# Altium footprint library PCB1.PcbLib: 11 footprints
Each footprint in its own frame and in the unit in brackets; x right, y up, seen from the top. Pads: shape width x height; smd on the part's side, far side on the other; paste and mask are expansions set on the pad; w line width, h text height; cw(c..) or ccw(c..) is an arc to the next point about the centre after c.
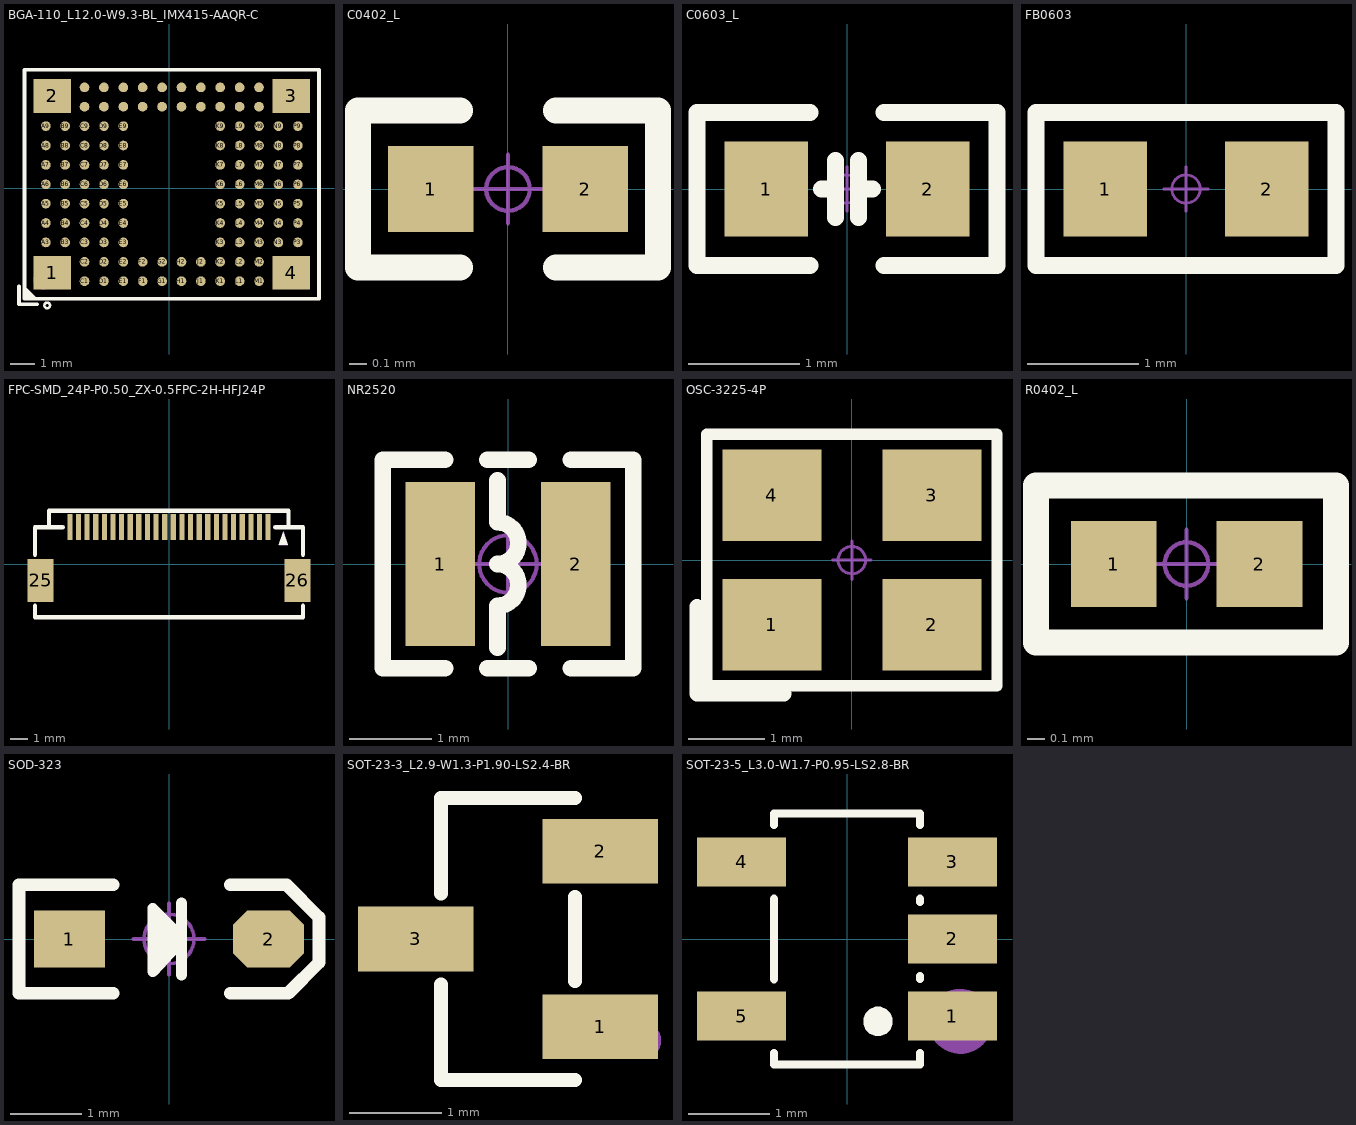
[diagram p0: the footprints below, top view; thin cyan lines are the x and y axes]

## BGA-110_L12.0-W9.3-BL_IMX415-AAQR-C [mm]
pads (114):
  rect 1.55x1.4 smd paste-100 mask-0.05: 1(-4.811,-3.493) 2(-4.811,3.807) 3(5.039,3.807) 4(5.039,-3.493)
  round 0.4 smd paste-100 mask+0.051: A3(-5.086,-2.243) A4(-5.086,-1.443) A5(-5.086,-0.643) A6(-5.086,0.157) A7(-5.086,0.957) A8(-5.086,1.757) A9(-5.086,2.557) B3(-4.286,-2.243) B4(-4.286,-1.443) B5(-4.286,-0.643) B6(-4.286,0.157) B7(-4.286,0.957) B8(-4.286,1.757) B9(-4.286,2.557) C1(-3.486,-3.843) C2(-3.486,-3.043) C3(-3.486,-2.243) C4(-3.486,-1.443) C5(-3.486,-0.643) C6(-3.486,0.157) C7(-3.486,0.957) C8(-3.486,1.757) C9(-3.486,2.557) C10(-3.486,3.357) C11(-3.486,4.157) D1(-2.686,-3.843) D2(-2.686,-3.043) D3(-2.686,-2.243) D4(-2.686,-1.443) D5(-2.686,-0.643) D6(-2.686,0.157) D7(-2.686,0.957) D8(-2.686,1.757) D9(-2.686,2.557) D10(-2.686,3.357) D11(-2.686,4.157) E1(-1.886,-3.843) E2(-1.886,-3.043) E3(-1.886,-2.243) E4(-1.886,-1.443) E5(-1.886,-0.643) E6(-1.886,0.157) E7(-1.886,0.957) E8(-1.886,1.757) E9(-1.886,2.557) E10(-1.886,3.357) E11(-1.886,4.157) F1(-1.086,-3.843) F2(-1.086,-3.043) F10(-1.086,3.357) F11(-1.086,4.157) G1(-0.286,-3.843) G2(-0.286,-3.043) G10(-0.286,3.357) G11(-0.286,4.157) H1(0.514,-3.843) H2(0.514,-3.043) H10(0.514,3.357) H11(0.514,4.157) J1(1.314,-3.843) J2(1.314,-3.043) J10(1.314,3.357) J11(1.314,4.157) K1(2.114,-3.843) K2(2.114,-3.043) K3(2.114,-2.243) K4(2.114,-1.443) K5(2.114,-0.643) K6(2.114,0.157) K7(2.114,0.957) K8(2.114,1.757) K9(2.114,2.557) K10(2.114,3.357) K11(2.114,4.157) L1(2.914,-3.843) L2(2.914,-3.043) L3(2.914,-2.243) L4(2.914,-1.443) L5(2.914,-0.643) L6(2.914,0.157) L7(2.914,0.957) L8(2.914,1.757) L9(2.914,2.557) L10(2.914,3.357) L11(2.914,4.157) M1(3.714,-3.843) M2(3.714,-3.043) M3(3.714,-2.243) M4(3.714,-1.443) M5(3.714,-0.643) M6(3.714,0.157) M7(3.714,0.957) M8(3.714,1.757) M9(3.714,2.557) M10(3.714,3.357) M11(3.714,4.157) N3(4.514,-2.243) N4(4.514,-1.443) N5(4.514,-0.643) N6(4.514,0.157) N7(4.514,0.957) N8(4.514,1.757) N9(4.514,2.557) P3(5.314,-2.243) P4(5.314,-1.443) P5(5.314,-0.643) P6(5.314,0.157) P7(5.314,0.957) P8(5.314,1.757) P9(5.314,2.557)
Top Overlay:
  circle w0.1: c-5.025,-4.842 r0.117
  region: -5.962,-4.569 -5.442,-4.569 -5.962,-4.049
  lines w0.152: -6.19,-4.049 -6.19,-4.798 -5.442,-4.798 ; -5.962,-4.569 -5.962,4.883 6.19,4.883 6.19,-4.569 -5.962,-4.569
Top Paste:
  drawing of 114 lines, arcs and shapes, not listed
Mechanical 15:
  circle w0.4: c-5.189,-3.783 r0.2
  region: -5.962,-4.569 -5.442,-4.569 -5.962,-4.049

## C0402_L [mm] "贴片MLCC电容"
pads (2):
  rect 0.5x0.5 smd: 1(-0.45,0) 2(0.45,0)
Top Overlay:
  lines w0.152: -0.279,-0.457 -0.875,-0.457 -0.875,0.457 -0.279,0.457 ; 0.279,-0.457 0.875,-0.457 0.875,0.457 0.279,0.457
Mechanical 15:
  circle w0.025: c0,0 r0.127
  lines w0.025: -0.2,0 0.2,0 ; 0,-0.2 0,0.2
3D body "C0402-B-2S.stp": height 0.5, standoff 0, extent -0.5,-0.25 0.5,0.25

## C0603_L [mm] "贴片MLCC电容"
pads (2):
  rect 0.75x0.85 smd: 1(-0.725,0) 2(0.725,0)
Top Overlay:
  lines w0.152: -0.33,-0.686 -1.346,-0.686 -1.346,0.686 -0.33,0.686 ; -0.229,0 -0.102,0 ; -0.102,-0.254 -0.102,0.254 ; 0.102,-0.254 0.102,0.254 ; 0.102,0 0.229,0 ; 0.33,-0.686 1.346,-0.686 1.346,0.686 0.33,0.686
Mechanical 15:
  circle w0.025: c0,0 r0.127
  lines w0.025: -0.2,0 0.2,0 ; 0,-0.2 0,0.2
3D body "C0603H08-2S.stp": height 0.8, standoff 0, extent -0.8,-0.4 0.8,0.4

## FB0603 [mm] "0603贴片磁珠"
pads (2):
  rect 0.75x0.85 smd: 1(-0.725,0) 2(0.725,0)
Top Overlay:
  lines w0.152: -1.346,-0.686 -1.346,0.686 1.346,0.686 1.346,-0.686 -1.346,-0.686
Mechanical 15:
  circle w0.025: c0,0 r0.127
  lines w0.025: -0.2,0 0.2,0 ; 0,-0.2 0,0.2
3D body "L0603H08-2S.stp": height 0.8, standoff 0, extent -0.8,-0.4 0.8,0.4

## FPC-SMD_24P-P0.50_ZX-0.5FPC-2H-HFJ24P [mm]
pads (26):
  rect 0.3x1.5 smd paste+0 mask+0.051: 1(5.75,2.152) 2(5.25,2.152) 3(4.75,2.152) 4(4.25,2.152) 5(3.75,2.152) 6(3.25,2.152) 7(2.75,2.152) 8(2.25,2.152) 9(1.75,2.152) 10(1.25,2.152) 11(0.75,2.152) 12(0.25,2.152) 13(-0.25,2.152) 14(-0.75,2.152) 15(-1.25,2.152) 16(-1.75,2.152) 17(-2.25,2.152) 18(-2.75,2.152) 19(-3.25,2.152) 20(-3.75,2.152) 21(-4.25,2.152) 22(-4.75,2.152) 23(-5.25,2.152) 24(-5.75,2.152)
  rect 1.5x2.5 smd paste+0 mask+0.051: 25(-7.45,-0.948) 26(7.45,-0.948)
Top Overlay:
  region: 6.621,1.872 6.875,1.11 6.367,1.11
  lines w0.254: -7.77,-2.43 -7.77,-3.081 7.77,-3.081 7.77,-2.43 ; -7.77,0.533 -7.77,2.126 -6.156,2.126 ; -6.963,2.126 -6.963,3.081 6.93,3.081 6.93,2.126 ; 6.156,2.126 7.77,2.126 7.77,0.533
Mechanical 15:
  region: 6.646,1.859 6.9,1.097 6.392,1.097

## NR2520 [mm] "2.5mm*2.0mm*1.0mm(长*宽*高）"
pads (2):
  rect 0.85x2 smd: 1(-0.825,0) 2(0.825,0)
Top Overlay:
  lines w0.203: -0.762,-1.27 -1.524,-1.27 -1.524,1.27 -0.762,1.27 ; -0.254,-1.27 0.254,-1.27 ; -0.254,1.27 0.254,1.27 ; -0.127,-1.016 -0.127,-0.508 ccw(c-0.127,-0.254) -0.127,0 ccw(c-0.127,0.254) -0.127,0.508 -0.127,1.016 ; 0.762,-1.27 1.524,-1.27 1.524,1.27 0.762,1.27
Mechanical 15:
  circle w0.05: c0,0 r0.35
  lines w0.05: -0.5,0 0.5,0 ; 0,-0.5 0,0.5
3D body "NR2520.STEP": height 1.12, standoff 0.02, extent -1.25,-1 1.25,1

## OSC-3225-4P [mm] "3.2*2.5*0.7mm(长宽高)                             淘宝ID:黄晶宝石"
pads (4):
  rect 1.3x1.2 smd: 1(-1.05,-0.85) 2(1.05,-0.85) 3(1.05,0.85) 4(-1.05,0.85)
Top Overlay:
  lines w0.15: -1.905,-1.651 -1.905,1.651 1.905,1.651 1.905,-1.651 -1.905,-1.651
  lines w0.2: -2.032,-1.753 -0.889,-1.753 ; -2.032,-1.727 -2.032,-0.61
Mechanical 15:
  circle w0.04: c0,0 r0.18
  lines w0.04: -0.254,0 0.254,0 ; 0,-0.254 0,0.254
3D body "OSC_3225-4.STEP": height 0.7, standoff -0.02, extent -1.6,-1.25 1.6,1.25

## R0402_L [mm] "1/16W贴片电阻"
pads (2):
  rect 0.5x0.5 smd: 1(-0.425,0) 2(0.425,0)
Top Overlay:
  lines w0.152: -0.878,-0.457 0.872,-0.457 0.872,0.457 -0.878,0.457 -0.878,-0.457
Mechanical 15:
  circle w0.025: c0,0 r0.127
  lines w0.025: -0.2,0 0.2,0 ; 0,-0.2 0,0.2
3D body "R0402.STEP": height 0.3, standoff 0, extent -0.5,-0.25 0.5,0.25

## SOD-323 [mm] "1.8x1.3X0.9mm（长宽高，不包括引脚）联系卖家 免费查找封装"
pads (2):
  rect 1x0.8 smd: 1(-1.4,0)
  oct 1x0.8 smd: 2(1.4,0)
Top Overlay:
  lines w0.152: 0.178,-0.508 0.178,0.508 ; 0.178,-0.025 -0.229,-0.457 -0.229,0.432 0.178,0.025
  lines w0.178: -0.787,-0.762 -2.108,-0.762 -2.108,0.762 -0.787,0.762 ; 0.864,-0.762 1.676,-0.762 2.108,-0.33 2.108,0.305 1.651,0.762 0.864,0.762
  lines w0.254: -0.127,0.254 -0.152,-0.178 0.025,-0.025 -0.025,0.127
Mechanical 15:
  circle w0.05: c0,0 r0.35
  lines w0.05: -0.5,0 0.5,0 ; 0,-0.5 0,0.5
3D body "SOD-323.STEP": height 0.95, standoff 0, extent -1.324,-0.65 1.324,0.65

## SOT-23-3_L2.9-W1.3-P1.90-LS2.4-BR [mm]
pads (3):
  rect 1.25x0.7 smd paste+0 mask+0.051: 1(431.596,-422.514) 2(431.596,-420.614) 3(429.597,-421.564)
Top Overlay:
  lines w0.152: 429.87,-422.058 429.87,-423.09 431.323,-423.09 ; 429.87,-421.069 429.87,-420.038 431.323,-420.038 ; 431.323,-422.019 431.323,-421.108
Mechanical 15:
  circle w0.2: c432.057,-422.664 r0.1

## SOT-23-5_L3.0-W1.7-P0.95-LS2.8-BR [mm]
pads (5):
  rect 1.1x0.6 smd paste+0 mask+0.051: 1(1.3,-0.95) 2(1.3,0) 3(1.3,0.95) 4(-1.3,0.95) 5(-1.3,-0.95)
Top Overlay:
  region: 0.204,-1.016 0.204,-0.98 0.23,-0.915 0.28,-0.864 0.346,-0.837 0.417,-0.837 0.482,-0.864 0.532,-0.915 0.559,-0.98 0.558,-1.016 0.559,-1.051 0.532,-1.117 0.482,-1.168 0.417,-1.195 0.346,-1.195 0.28,-1.168 0.23,-1.117 0.204,-1.051 0.204,-1.016
  lines w0.1: -0.9,-1.404 -0.9,-1.55 0.9,-1.55 0.9,-1.404 ; -0.9,-0.496 -0.9,0.496 ; -0.9,1.404 -0.9,1.55 0.9,1.55 0.9,1.404 ; 0.9,-0.496 0.9,-0.454 ; 0.9,0.454 0.9,0.496
Mechanical 15:
  circle w0.4: c1.397,-1.016 r0.2